# Altium schematic symbol library AVR128DB48.SchLib: 1 symbol
Pins are listed as number, name and electrical type; pins without a type are passive.

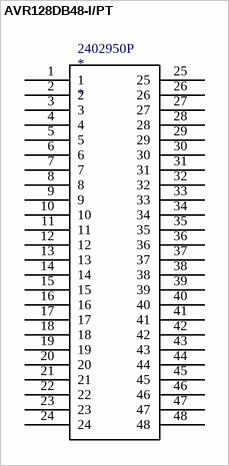
[diagram p0: symbol AVR128DB48-I/PT]

## AVR128DB48-I/PT
designator *  Supplier Part Number 1: 2402950P
RISC Microcontroller, 8-Bit, FLASH, AVR CPU, 24MHz, CMOS, PQFP48; Manufacturer: Microchip; Manufacturer Part Number: AVR128DB48-I/PT; Supplier 1: Rs; RoHS: No; Category: Microcontrollers; Stock 1: 235; ComponentLink1URL: http://ww1.microchip.com/downloads/en/DeviceDoc/AVR128DB28-32-48-64-DataSheet-DS40002247A.pdf?src-supplier=Digi-Key; ComponentLink1Description: http://ww1.microchip.com/downloads/en/DeviceDoc/AVR128DB28-32-48-64-DataSheet-DS40002247A.pdf?src-supplier=Digi-Key; ComponentLink2URL: https://datasheet.octopart.com/AVR128DB48-I-PT-Microchip-datasheet-149178142.pdf?src-supplier=Master+Electronics; ComponentLink2Description: https://datasheet.octopart.com/AVR128DB48-I-PT-Microchip-datasheet-149178142.pdf?src-supplier=Master+Electronics
footprint CQFP50P1170X1170X120-48N (CQFP, 48-Leads, Body 11,70x11,70mm, Pitch 0,50mm, IPC Medium Density); pin to pad 1>PA5 2>PA6 3>PA7 4>PB0 5>PB1 6>PB2 7>PB3 8>PB4 9>PB5 10>PC0 11>PC1 12>PC2 13>PC3 14>VDDIO2 15>GND 16>PC4 17>PC5 18>PC6 19>PC7 20>PD0 21>PD1 22>PD2 23>PD3 24>PD4 25>PD5 26>PD6 27>PD7 28>AVDD 29>GND 30>PE0 31>PE1 32>PE2 33>PE3 34>PF0 35>PF1(XTAL32K1 36>PF2(XTAL32K2 37>PF3 38>PF4 39>PF5 40>PF6(!RESET 41>UPDI 42>VDD 43>GND 44>PA0(XTALHF1 45>PA1(XTALHF2 46>PA2 47>PA3 48>PA4
pins: 1, 2, 3, 4, 5, 6, 7, 8, 9, 10, 11, 12, 13, 14, 15, 16, 17, 18, 19, 20, 21, 22, 23, 24, 25, 26, 27, 28, 29, 30, 31, 32, 33, 34, 35, 36, 37, 38, 39, 40, 41, 42, 43, 44, 45, 46, 47, 48